# Altium schematic symbol library DPDT_RELAY_L2.SchLib: 1 symbol
Pins are listed as number, name and electrical type; pins without a type are passive.

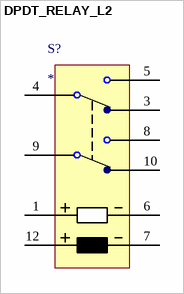
[diagram p0: symbol DPDT_RELAY_L2]

## DPDT_RELAY_L2
designator S?
DPDT with Set and Release Coils
pins: 1, 3, 4, 5, 6, 7, 8, 9, 10, 12